# Altium integrated library Samtec Connector Board-to-Board.IntLib: 2 symbols
Pins are listed as number, name and electrical type; pins without a type are passive.

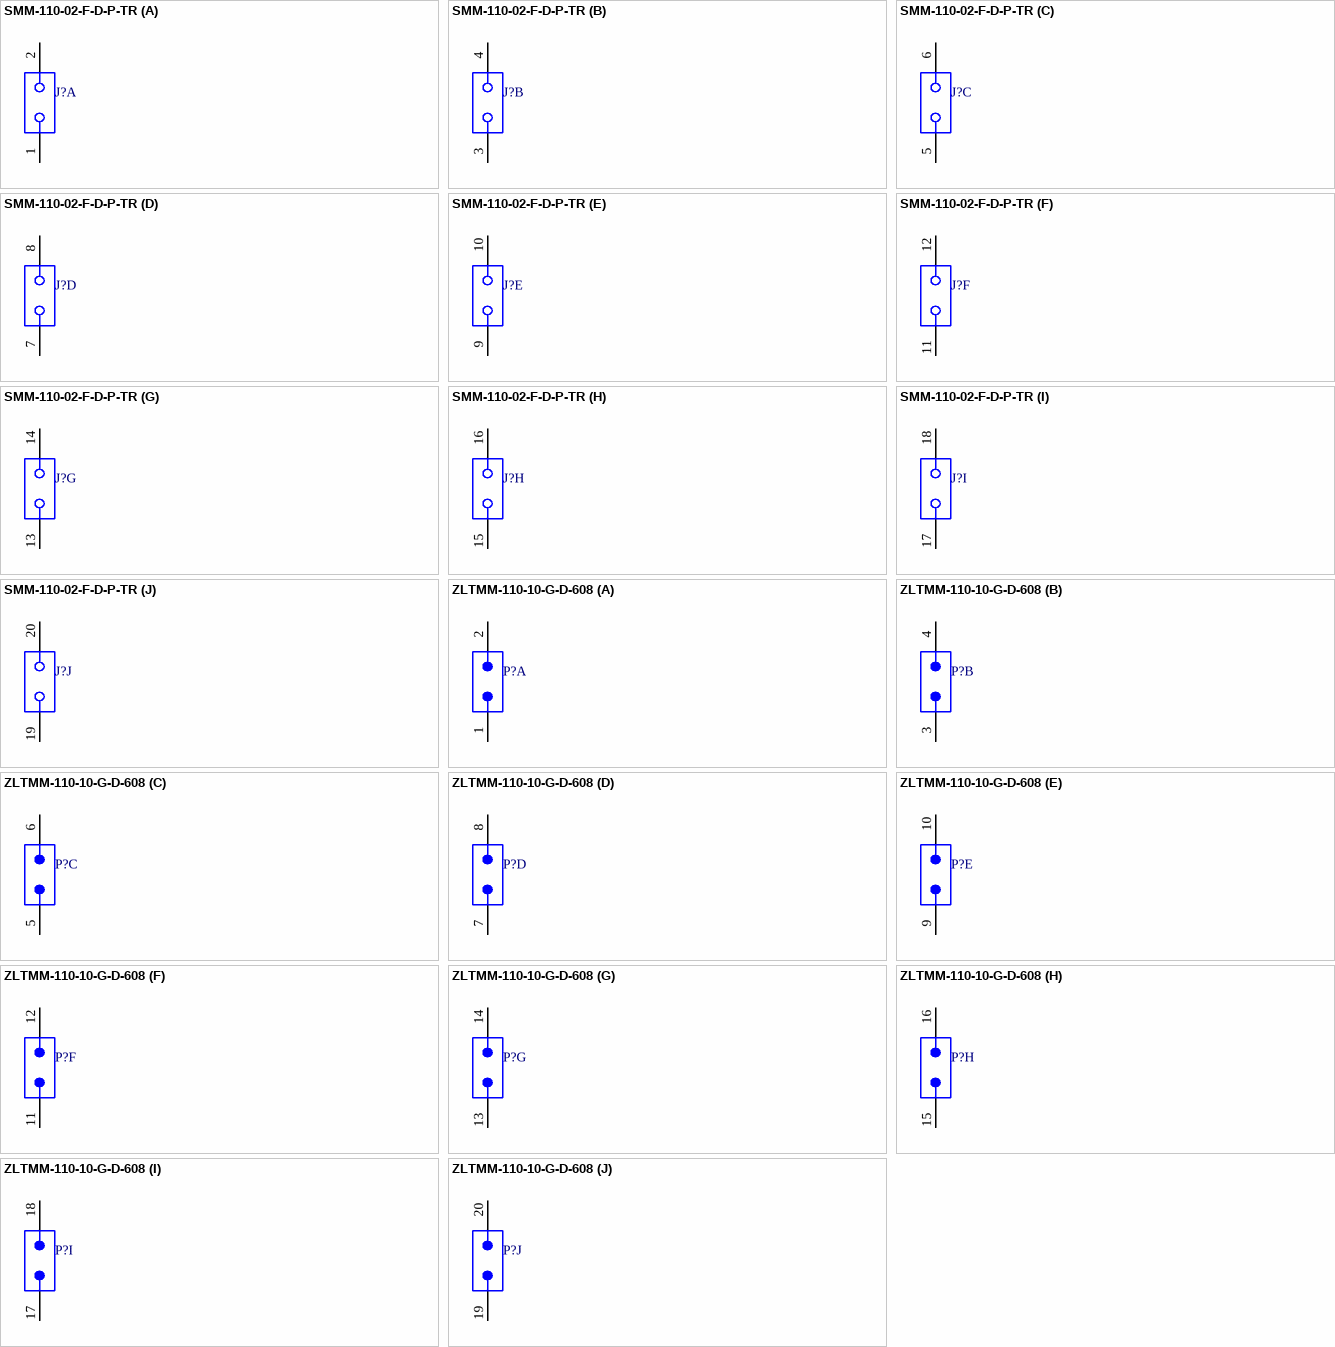
[diagram p0: symbols SMM-110-02-F-D-P-TR to ZLTMM-110-10-G-D-608]

## SMM-110-02-F-D-P-TR
designator J?
High Reliability Socket, 20 Position, Centerline: 2mm (.0787"), Double Row, SMT, Flash Gold Plate, Pick & Place Pad, T&R; PCB_Layout: Complies with manufacturer's recommendation.; Mates_with: TMM, MMT, TW, TMMH, TCMD Series.; Published: 26-Sep-2008; DatasheetVersion: Feb-2008; PackageVersion: revAM, 2007; PackageReference: SMM-110-02-D; Publisher: Altium Limited; PackageDescription: Socket, Double Row, SMT, 20 Position, Vertical, Pitch 2mm, Body 20 x 4 mm (LxW); ComponentLink1Description: Manufacturer Link; ComponentLink1URL: http://www.samtec.com/; ComponentLink2Description: Datasheet; ComponentLink2URL: http://www.samtec.com/ftppub/pdf/SMM.PDF; ComponentLink3Description: Packaging Specification; ComponentLink3URL: http://www.samtec.com/ftppub/cpdf/SMM-1xx-xx-x-d-xx-x-xx-xx-MKT.pdf
footprint SMM-110-02-D (Connector, Socket Strip, Double Row, SMT, 20 Position, Vertical, Pitch 2mm, Body 20 x 4 mm (LxW))
signal-integrity model Board-to-Board
part A pins: 1, 2
part B pins: 3, 4
part C pins: 5, 6
part D pins: 7, 8
part E pins: 9, 10
part F pins: 11, 12
part G pins: 13, 14
part H pins: 15, 16
part I pins: 17, 18
part J pins: 19, 20

## ZLTMM-110-10-G-D-608
designator P?
Shrouded Header, 20 Position, Elevated Centerline: 2mm (.0787"), Double Row, Thru-Hole, Post Height 2.54mm, Gold Plate; Mates_with: SMM, MMS, SQW, SQT, ESQT Series.; Published: 26-Sep-2008; DatasheetVersion: Feb-2008; PackageVersion: revM, 2007; PackageReference: ZLTMM-110-10-D-608; Publisher: Altium Limited; PackageDescription: Shrouded Header, Double Row, Thru-Hole, 20 Position, Vertical, Pitch 2mm, Body 22.38 x 6.5 mm (LxW); ComponentLink1Description: Manufacturer Link; ComponentLink1URL: http://www.samtec.com/; ComponentLink2Description: Datasheet; ComponentLink2URL: http://www.samtec.com/ftppub/pdf/ZLTMM_TH.PDF; ComponentLink3Description: Packaging Specification; ComponentLink3URL: http://www.samtec.com/ftppub/cpdf/ZLTMMMK.PDF
footprint ZLTMM-110-10-D-608 (Connector, Shrouded Header, Double Row, Thru-Hole, 20 Position, Vertical, Pitch 2mm, Body 22.38 x 6.5 mm (LxW))
signal-integrity model Board-to-Board
part A pins: 1, 2
part B pins: 3, 4
part C pins: 5, 6
part D pins: 7, 8
part E pins: 9, 10
part F pins: 11, 12
part G pins: 13, 14
part H pins: 15, 16
part I pins: 17, 18
part J pins: 19, 20